# EAGLE library part 5267_6 (library Molex)
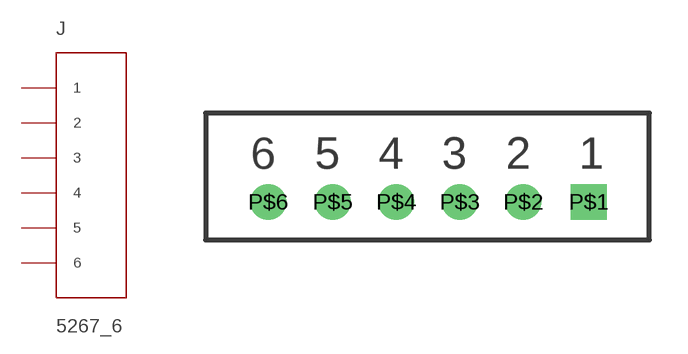
[diagram p8: symbol with the pads of 5267_6; footprint 5267_6]

Designator prefix J

## 5267_6  [5267_6]
P$1  1
P$2  2
P$3  3
P$4  4
P$5  5
P$6  6

## Footprint 5267_6 (pad centres in mm)
drill 0.9 square: P$1 12.58,0
drill 0.9: P$2 10,0; P$3 7.5,0; P$4 5,0; P$5 2.5,0; P$6 -0.04,0